# Altium footprint library ROM.PcbLib: 3 footprints
Each footprint in its own frame and in the unit in brackets; x right, y up, seen from the top. Pads: shape width x height; smd on the part's side, far side on the other; paste and mask are expansions set on the pad; w line width, h text height; cw(c..) or ccw(c..) is an arc to the next point about the centre after c.
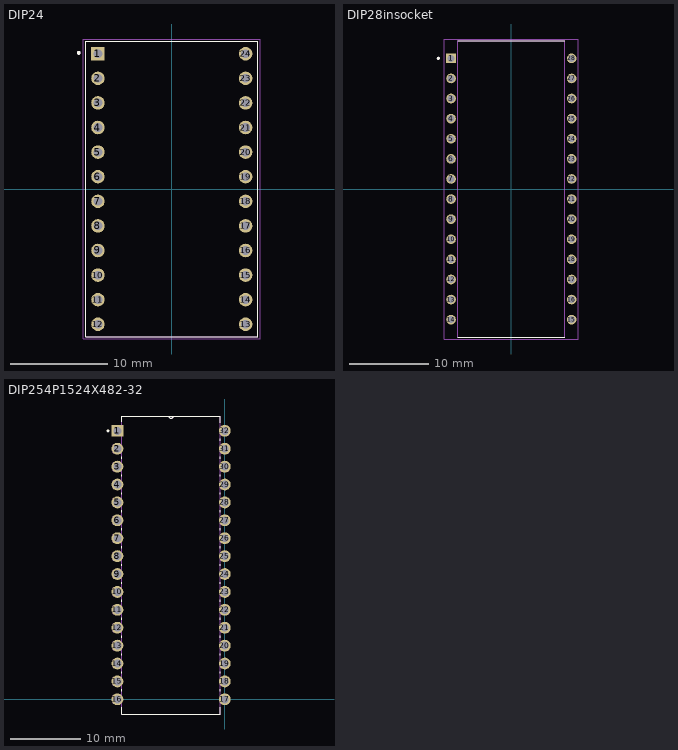
[diagram p0: the footprints below, top view; thin cyan lines are the x and y axes]

## DIP24 [mil]
pads (24):
  rect 55x55 hole 35: 1(-300,550)
  round 55 hole 35: 2(-300,450) 3(-300,350) 4(-300,250) 5(-300,150) 6(-300,50) 7(-300,-50) 8(-300,-150) 9(-300,-250) 10(-300,-350) 11(-300,-450) 12(-300,-550) 13(300,-550) 14(300,-450) 15(300,-350) 16(300,-250) 17(300,-150) 18(300,-50) 19(300,50) 20(300,150) 21(300,250) 22(300,350) 23(300,450) 24(300,550)
Top Overlay:
  circle w7.87: c-378.35,553.54 r3.94
  lines w5: -350,-600 -350,600 350,600 350,-600 -350,-600
Mechanical 13:
  circle w7.87: c-378.35,553.54 r3.94
  lines w5: -350,-600 -350,600 350,600 350,-600 -350,-600
Mechanical 15:
  lines w1.97: -359.84,-609.84 -359.84,609.84 359.84,609.84 359.84,-609.84 -359.84,-609.84
3D body "DIP24WITHWINDOW.step": height 397.95, standoff 40.08, extent -304,-658.52 295.84,626.52
3D body "dip24_socket.stp": height 170, standoff -120, extent -348,-598.01 348,597.99
3D body: height 128.8, standoff -351.2, extent -125,-50 -125,-50

## DIP28insocket [mm]
height 6.35
pads (28):
  rect 1.22x1.22 / inner round 1.22 / far side rect 1.22x1.22 hole 0.87: 1(-7.62,16.51)
  round 1.22 hole 0.87: 2(-7.62,13.97) 3(-7.62,11.43) 4(-7.62,8.89) 5(-7.62,6.35) 6(-7.62,3.81) 7(-7.62,1.27) 8(-7.62,-1.27) 9(-7.62,-3.81) 10(-7.62,-6.35) 11(-7.62,-8.89) 12(-7.62,-11.43) 13(-7.62,-13.97) 14(-7.62,-16.51) 15(7.62,-16.51) 16(7.62,-13.97) 17(7.62,-11.43) 18(7.62,-8.89) 19(7.62,-6.35) 20(7.62,-3.81) 21(7.62,-1.27) 22(7.62,1.27) 23(7.62,3.81) 24(7.62,6.35) 25(7.62,8.89) 26(7.62,11.43) 27(7.62,13.97) 28(7.62,16.51)
Top Overlay:
  circle w0.2: c-9.23,16.51 r0.1
  lines w0.127: -6.763,-18.703 6.763,-18.703 ; -6.763,18.703 6.763,18.703
Mechanical 13:
  circle w0.2: c-9.23,16.51 r0.1
  lines w0.127: -6.763,-18.703 6.763,-18.703 6.763,18.703 -6.763,18.703 -6.763,-18.703
Mechanical 15:
  lines w0.05: -8.48,-18.952 8.48,-18.952 8.48,18.952 -8.48,18.952 -8.48,-18.952
3D body "step_temp.STEP": height 10.67, standoff -0.76, extent -7.766,-18.701 7.766,18.701
3D body "SCL-28.STEP": height 5.35, standoff -2.85, extent -8.814,-17.704 8.966,17.856

## DIP254P1524X482-32 [mil]
pads (32):
  rect 66x66 hole 44: 1(-600,1500)
  round 66 hole 44: 2(-600,1400) 3(-600,1300) 4(-600,1200) 5(-600,1100) 6(-600,1000) 7(-600,900) 8(-600,800) 9(-600,700) 10(-600,600) 11(-600,500) 12(-600,400) 13(-600,300) 14(-600,200) 15(-600,100) 16(-600,0) 17(0,0) 18(0,100) 19(0,200) 20(0,300) 21(0,400) 22(0,500) 23(0,600) 24(0,700) 25(0,800) 26(0,900) 27(0,1000) 28(0,1100) 29(0,1200) 30(0,1300) 31(0,1400) 32(0,1500)
Top Overlay:
  circle w7.87: c-652.66,1500 r3.94
  lines w6: -575,-45 -575,-82 -25,-82 -25,-45 ; -575,45 -575,55 ; -575,145 -575,155 ; -575,245 -575,255 ; -575,345 -575,355 ; -575,445 -575,455 ; -575,545 -575,555 ; -575,645 -575,655 ; -575,745 -575,755 ; -575,845 -575,855 ; -575,945 -575,955 ; -575,1045 -575,1055 ; -575,1145 -575,1155 ; -575,1245 -575,1255 ; -575,1345 -575,1355 ; -575,1552 -575,1582 -312,1582 ; -25,45 -25,55 ; -25,145 -25,155 ; -25,245 -25,255 ; -25,345 -25,355 ; -25,445 -25,455 ; -25,545 -25,555 ; -25,645 -25,655 ; -25,745 -25,755 ; -25,845 -25,855 ; -25,945 -25,955 ; -25,1045 -25,1055 ; -25,1145 -25,1155 ; -25,1245 -25,1255 ; -25,1345 -25,1355 ; -25,1445 -25,1455 ; -25,1545 -25,1582 -288,1582 ; -312,1582 ccw(c-300,1582) -288,1582 ; -312,1582 -288,1582
Mechanical 13:
  lines w0: -312,1582 ccw(c-300,1582) -288,1582 ; -312,1582 -288,1582 ; -312,1582 -575,1582 -575,-82 -25,-82 -25,1582 -288,1582 ; -622,-22 -622,22 -575,22 -575,-22 -622,-22 ; -622,78 -622,122 -575,122 -575,78 -622,78 ; -622,178 -622,222 -575,222 -575,178 -622,178 ; -622,278 -622,322 -575,322 -575,278 -622,278 ; -622,378 -622,422 -575,422 -575,378 -622,378 ; -622,478 -622,522 -575,522 -575,478 -622,478 ; -622,578 -622,622 -575,622 -575,578 -622,578 ; -622,678 -622,722 -575,722 -575,678 -622,678 ; -622,778 -622,822 -575,822 -575,778 -622,778 ; -622,878 -622,922 -575,922 -575,878 -622,878 ; -622,978 -622,1022 -575,1022 -575,978 -622,978 ; -622,1078 -622,1122 -575,1122 -575,1078 -622,1078 ; -622,1178 -622,1222 -575,1222 -575,1178 -622,1178 ; -622,1278 -622,1322 -575,1322 -575,1278 -622,1278 ; -622,1378 -622,1422 -575,1422 -575,1378 -622,1378 ; -622,1478 -622,1522 -575,1522 -575,1478 -622,1478 ; -25,-22 -25,22 22,22 22,-22 -25,-22 ; -25,78 -25,122 22,122 22,78 -25,78 ; -25,178 -25,222 22,222 22,178 -25,178 ; -25,278 -25,322 22,322 22,278 -25,278 ; -25,378 -25,422 22,422 22,378 -25,378 ; -25,478 -25,522 22,522 22,478 -25,478 ; -25,578 -25,622 22,622 22,578 -25,578 ; -25,678 -25,722 22,722 22,678 -25,678 ; -25,778 -25,822 22,822 22,778 -25,778 ; -25,878 -25,922 22,922 22,878 -25,878 ; -25,978 -25,1022 22,1022 22,978 -25,978 ; -25,1078 -25,1122 22,1122 22,1078 -25,1078 ; -25,1178 -25,1222 22,1222 22,1178 -25,1178 ; -25,1278 -25,1322 22,1322 22,1278 -25,1278 ; -25,1378 -25,1422 22,1422 22,1378 -25,1378 ; -25,1478 -25,1522 22,1522 22,1478 -25,1478
3D body "DIP-32P-M01.step": height 336.85, standoff 21.89, extent -604.92,-45.28 4.92,1545.28
3D body "dip32_socket_.stp": height 180, standoff -138.9, extent -646.18,-46.07 50.67,1553.93